# EAGLE library part MALEDOUBLEUSB (library BeCreative)
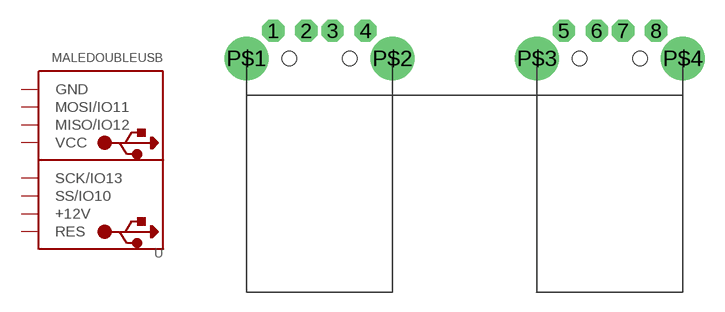
[diagram p4: symbol with the pads of A-USB-A-LP-C-DOUBLE; footprint A-USB-A-LP-C-DOUBLE]

Designator prefix -

## MALEDOUBLEUSB  [A-USB-A-LP-C-DOUBLE]
1  RES  pwr
2  +12V
3  SS/IO10
4  SCK/IO13  pwr
5  VCC  pwr
6  MISO/IO12
7  MOSI/IO11
8  GND  pwr

## Footprint A-USB-A-LP-C-DOUBLE (pad centres in mm)
drill 0.9 pad 1.67 octagon: 1 -14.515,11.1; 2 -12.015,11.1; 3 -10.015,11.1; 4 -7.515,11.1; 5 7.515,11.1; 6 10.015,11.1; 7 12.015,11.1; 8 14.515,11.1
drill 2.3 pad 3: P$1 -16.55,9; P$2 -5.48,9; P$3 5.48,9; P$4 16.55,9
hole 1.1 at -13.315,9
hole 1.1 at -8.715,9
hole 1.1 at 13.315,9
hole 1.1 at 8.715,9